# Altium schematic symbol library SchlibPH.SchLib: 21 symbols
Pins are listed as number, name and electrical type; pins without a type are passive.

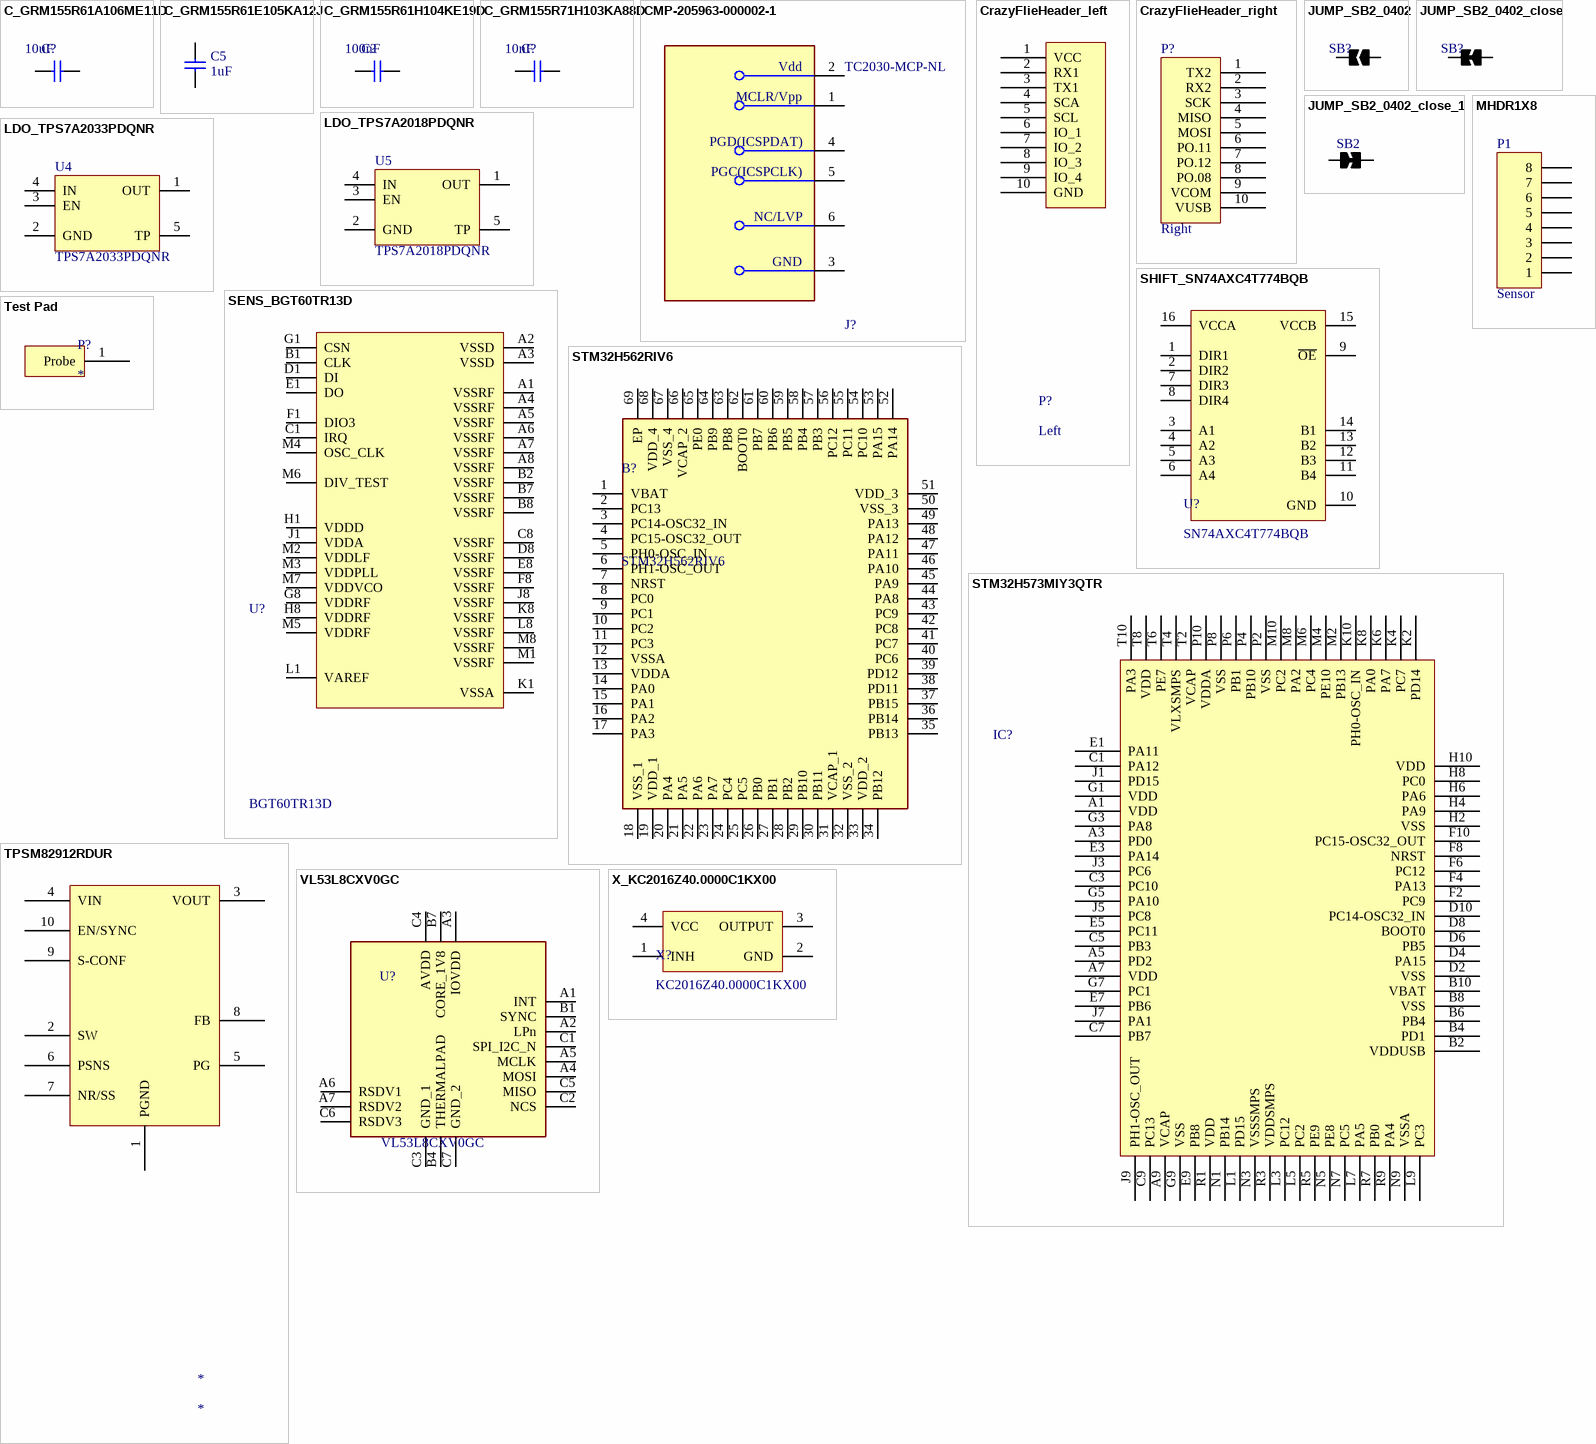
[diagram p0: symbols C_GRM155R61A106ME11D to X_KC2016Z40.0000C1KX00]

## C_GRM155R61A106ME11D
designator C?, comment 10uF
CAP CER  10uF 10V X5R 20% 0402; Part Number: GRM033R70J103JA01D; Manufacturer: Murata Electronics; Manufacturer Part Number: GRM155R71H103KA88D; Temperature Coefficient: X7R; Tolerance: ±5%; Voltage - Rated: 6.3V; Dielectric Material: Ceramic; Multilayer: Yes; Negative Tolerance: 10%; Rated DC Voltage (URdc): 50V; Applications: General Purpose; Capacitance: 10uF; ComponentLink1Description: Datasheet; ComponentLink1URL: https://search.murata.co.jp/Ceramy/image/img/A01X/G101/ENG/GRM033R70J103JA01-01.pdf; ComponentLink2Description: DigiKey Link; ComponentLink2URL: http://digikey.com/product-detail/en/murata-electronics/GRM033R70J103JA01D/490-16599-1-ND/7595523; Device Package: 0201 (0603 Metric); LastUpdated: 02/09/2020 01:00:04; Lifecycle Status: Active; Minimum Order: 1; Mounting Type: Surface Mount, MLCC; Operating Temperature: -55°C ~ 125°C; Package / Case: 0201 (0603 Metric); Packaging: CutTape; PartId: 174; Part Status: Active; Price: 0.10; Series: GRM; Size / Dimension: 0.024" L x 0.012" W (0.60mm x 0.30mm); Thickness (Max): 0.013" (0.33mm); Value: 10uF; RoHS: Yes; Category: Ceramic Capacitors; Stock 1: 3320653; Pricing 1: 1=0.10000, 10=0.03200, 50=0.03200, 100=0.01500, 1000=0.00800, 10000=0.00500 (USD); Mount: Surface Mount; Number of Pins: 2; Size Code: 0402; Terminal Finish: Nickel; Package Shape: Rectangular; Min Operating Temperature: -55°C; Max Operating Temperature: 125°C; JESD-609 Code: e3; Capacitor Type: Ceramic; Positive Tolerance: 10%; Temperature Characteristics Code: X7R; Termination: Wraparound; Package Style: SMTMeter; Length: 1mm; Width: 0.5mm; Height: 0.5mm; REACH SVHC: Yes; RoHS Compliant: Yes; ComponentLink3URL: https://psearch.en.murata.com:443/capacitor/product/GRM155R71H103KA88%23.pdf?src-supplier=IHS+Markit; ComponentLink3Description: https://psearch.en.murata.com:443/capacitor/product/GRM155R71H103KA88%23.pdf?src-supplier=IHS+Markit; ComponentLink4URL: https://datasheet.ciiva.com/22698/1747449-22698420.pdf?src-supplier=Element14; ComponentLink4Description: https://datasheet.ciiva.com/22698/1747449-22698420.pdf?src-supplier=Element14; ComponentLink5URL: https://datasheet.ciiva.com/19476/1856433-19476546.pdf?src-supplier=Jameco; ComponentLink5Description: https://datasheet.ciiva.com/19476/1856433-19476546.pdf?src-supplier=Jameco; ComponentLink6URL: https://datasheet.ciiva.com/129/product-129810.pdf?src-supplier=Digi-Key; ComponentLink6Description: https://datasheet.ciiva.com/129/product-129810.pdf?src-supplier=Digi-Key; ComponentLink7URL: https://datasheet.ciiva.com/11786/0900766b80ef921d-11786340.pdf?src-supplier=RSComponents; ComponentLink7Description: https://datasheet.ciiva.com/11786/0900766b80ef921d-11786340.pdf?src-supplier=RSComponents; ComponentLink8URL: https://datasheet.ciiva.com/18100/getdatasheetpartid-27434-18100660.pdf?src-supplier=Verical; ComponentLink8Description: https://datasheet.ciiva.com/18100/getdatasheetpartid-27434-18100660.pdf?src-supplier=Verical; ComponentLink9URL: https://datasheet.ciiva.com/29199/454225-da-01-en-vs-kondensator-0402-29199740.pdf?src-supplier=Conrad; ComponentLink9Description: https://datasheet.ciiva.com/29199/454225-da-01-en-vs-kondensator-0402-29199740.pdf?src-supplier=Conrad; ComponentLink10URL: https://datasheet.ciiva.com/129/grm155r71h103ka88-01-129811.pdf?src-supplier=Digi-Key; ComponentLink10Description: https://datasheet.ciiva.com/129/grm155r71h103ka88-01-129811.pdf?src-supplier=Digi-Key; ComponentLink11URL: https://datasheet.ciiva.com/129/grm155r71h103ka88-01-129812.pdf?src-supplier=Digi-Key; ComponentLink11Description: https://datasheet.ciiva.com/129/grm155r71h103ka88-01-129812.pdf?src-supplier=Digi-Key; ComponentLink12URL: https://datasheet.ciiva.com/5410/product-5410990.pdf?src-supplier=Mouser; ComponentLink12Description: https://datasheet.ciiva.com/5410/product-5410990.pdf?src-supplier=Mouser; ComponentLink13URL: https://datasheet.ciiva.com/16495/product-16495290.pdf?src-supplier=Future+Electronics; ComponentLink13Description: https://datasheet.ciiva.com/16495/product-16495290.pdf?src-supplier=Future+Electronics; Stock 2: 66098; Pricing 2: 1=0.17000, 10=0.12400, 50=0.07060, 100=0.05840, 500=0.04098, 1000=0.03392, 2500=0.03157, 5000=0.02888 (USD); Reach SVHC Compliant: Yes; ComponentLink14URL: https://datasheet.ciiva.com:443/pdfs/VipMasterIC/IC/MURE/MURE-S-A0006500741/MURE-S-A0006500741-1.pdf?src-supplier=IHS+Markit; ComponentLink14Description: https://datasheet.ciiva.com:443/pdfs/VipMasterIC/IC/MURE/MURE-S-A0006500741/MURE-S-A0006500741-1.pdf?src-supplier=IHS+Markit; Supplier 1: Digi-Key; Supplier Part Number 1: 490-GRM155R61A106ME11DCT-ND
footprint CAP0402 (Chip Capacitor, Body 1.0x0.5mm, Height 0.7mm, IPC High Density)
pins: 1, 2

## C_GRM155R61E105KA12J
designator C5, comment 1uF
CAP CER 1uF 25V X5R 0402; Manufacturer: Murata; Manufacturer Part Number: GRM033R61A105ME15D; Voltage Rating: 10V; Tolerance: 20%; Dielectric Material: Ceramic; Multilayer: Yes; Negative Tolerance: 10%; RoHS: Yes; Category: Ceramic Capacitors; Stock 1: 645001; Pricing 1: 1=0.18000, 10=0.08400, 50=0.08400, 100=0.03800, 1000=0.02100, 10000=0.01600 (USD); Mount: Surface Mount; Case/Package: 0201; Case Code (Metric): 0603; Case Code (Imperial): 0201; Min Operating Temperature: -55°C; Max Operating Temperature: 85°C; Packaging: Tape and Reel; Capacitance: 1uF; Voltage Rating (DC): 10V; Dielectric: X5R; Length: 0.024inch; Width: 0.012inch; Thickness: 0.015inch; RoHS Compliant: Yes; ComponentLink1URL: http://search.murata.co.jp/Ceramy/image/img/A01X/G101/ENG/GRM033R61A105ME15-01.pdf?src-supplier=Digi-Key; ComponentLink1Description: http://search.murata.co.jp/Ceramy/image/img/A01X/G101/ENG/GRM033R61A105ME15-01.pdf?src-supplier=Digi-Key; Supplier 1: Mouser; Number of Pins: 2; Package Shape: Rectangular; Size Code: 0402; Terminal Finish: Nickel; JESD-609 Code: e3; Capacitor Type: Ceramic; Package Style: SMTMeter; Positive Tolerance: 10%; Rated DC Voltage (URdc): 25V; Temperature Characteristics Code: X5R; Termination: Wraparound; Height: 0.5mm; REACH SVHC: Yes; ComponentLink2URL: https://datasheet.ciiva.com:443/pdfs/VipMasterIC/IC/MURE/MURE-S-A0004362469/MURE-S-A0004364524-1.pdf?src-supplier=IHS+Markit; ComponentLink2Description: https://datasheet.ciiva.com:443/pdfs/VipMasterIC/IC/MURE/MURE-S-A0004362469/MURE-S-A0004364524-1.pdf?src-supplier=IHS+Markit; ComponentLink3URL: http://search.murata.co.jp/Ceramy/image/img/A01X/G101/ENG/GRM155R61E105KA12-01.pdf?src-supplier=Digi-Key; ComponentLink3Description: http://search.murata.co.jp/Ceramy/image/img/A01X/G101/ENG/GRM155R61E105KA12-01.pdf?src-supplier=Digi-Key; Supplier Part Number 1: 81-GRM155R61E105KA2J
footprint CAP0402 (Chip Capacitor, Body 1.0x0.5mm, Height 0.7mm, IPC High Density)
pins: 1, 2

## C_GRM155R61H104KE19D
designator C?, comment 100nF
CAP CER 100nF 50V X5R 0402; Part Number: GRM033R70J103JA01D; Manufacturer: Murata Electronics; Manufacturer Part Number: GRM155R71H103KA88D; Temperature Coefficient: X7R; Tolerance: ±5%; Voltage - Rated: 6.3V; Dielectric Material: Ceramic; Multilayer: Yes; Negative Tolerance: 10%; Applications: General Purpose; Capacitance: 100nF; ComponentLink1Description: Datasheet; ComponentLink1URL: https://search.murata.co.jp/Ceramy/image/img/A01X/G101/ENG/GRM033R70J103JA01-01.pdf; ComponentLink2Description: DigiKey Link; ComponentLink2URL: http://digikey.com/product-detail/en/murata-electronics/GRM033R70J103JA01D/490-16599-1-ND/7595523; Device Package: 0201 (0603 Metric); LastUpdated: 02/09/2020 01:00:04; Lifecycle Status: Active; Minimum Order: 1; Mounting Type: Surface Mount, MLCC; Operating Temperature: -55°C ~ 125°C; Package / Case: 0201 (0603 Metric); Packaging: CutTape; PartId: 174; Part Status: Active; Price: 0.10; Series: GRM; Size / Dimension: 0.024" L x 0.012" W (0.60mm x 0.30mm); Thickness (Max): 0.013" (0.33mm); Value: 100nF; RoHS: Yes; Category: Ceramic Capacitors; Stock 1: 1915648; Pricing 1: 1=0.10000, 10=0.03600, 50=0.03600, 100=0.02900, 1000=0.01700, 10000=0.01100 (USD); Mount: Surface Mount; Number of Pins: 2; Size Code: 0402; Terminal Finish: Nickel; Package Shape: Rectangular; Min Operating Temperature: -55°C; Max Operating Temperature: 125°C; JESD-609 Code: e3; Capacitor Type: Ceramic; Positive Tolerance: 10%; Rated DC Voltage (URdc): 50V; Temperature Characteristics Code: X7R; Termination: Wraparound; Package Style: SMTMeter; Length: 1mm; Width: 0.5mm; Height: 0.5mm; REACH SVHC: Yes; RoHS Compliant: Yes; ComponentLink3URL: https://psearch.en.murata.com:443/capacitor/product/GRM155R71H103KA88%23.pdf?src-supplier=IHS+Markit; ComponentLink3Description: https://psearch.en.murata.com:443/capacitor/product/GRM155R71H103KA88%23.pdf?src-supplier=IHS+Markit; ComponentLink4URL: https://datasheet.ciiva.com/22698/1747449-22698420.pdf?src-supplier=Element14; ComponentLink4Description: https://datasheet.ciiva.com/22698/1747449-22698420.pdf?src-supplier=Element14; ComponentLink5URL: https://datasheet.ciiva.com/19476/1856433-19476546.pdf?src-supplier=Jameco; ComponentLink5Description: https://datasheet.ciiva.com/19476/1856433-19476546.pdf?src-supplier=Jameco; ComponentLink6URL: https://datasheet.ciiva.com/129/product-129810.pdf?src-supplier=Digi-Key; ComponentLink6Description: https://datasheet.ciiva.com/129/product-129810.pdf?src-supplier=Digi-Key; ComponentLink7URL: https://datasheet.ciiva.com/11786/0900766b80ef921d-11786340.pdf?src-supplier=RSComponents; ComponentLink7Description: https://datasheet.ciiva.com/11786/0900766b80ef921d-11786340.pdf?src-supplier=RSComponents; ComponentLink8URL: https://datasheet.ciiva.com/18100/getdatasheetpartid-27434-18100660.pdf?src-supplier=Verical; ComponentLink8Description: https://datasheet.ciiva.com/18100/getdatasheetpartid-27434-18100660.pdf?src-supplier=Verical; ComponentLink9URL: https://datasheet.ciiva.com/29199/454225-da-01-en-vs-kondensator-0402-29199740.pdf?src-supplier=Conrad; ComponentLink9Description: https://datasheet.ciiva.com/29199/454225-da-01-en-vs-kondensator-0402-29199740.pdf?src-supplier=Conrad; ComponentLink10URL: https://datasheet.ciiva.com/129/grm155r71h103ka88-01-129811.pdf?src-supplier=Digi-Key; ComponentLink10Description: https://datasheet.ciiva.com/129/grm155r71h103ka88-01-129811.pdf?src-supplier=Digi-Key; ComponentLink11URL: https://datasheet.ciiva.com/129/grm155r71h103ka88-01-129812.pdf?src-supplier=Digi-Key; ComponentLink11Description: https://datasheet.ciiva.com/129/grm155r71h103ka88-01-129812.pdf?src-supplier=Digi-Key; ComponentLink12URL: https://datasheet.ciiva.com/5410/product-5410990.pdf?src-supplier=Mouser; ComponentLink12Description: https://datasheet.ciiva.com/5410/product-5410990.pdf?src-supplier=Mouser; ComponentLink13URL: https://datasheet.ciiva.com/16495/product-16495290.pdf?src-supplier=Future+Electronics; ComponentLink13Description: https://datasheet.ciiva.com/16495/product-16495290.pdf?src-supplier=Future+Electronics; ComponentLink14URL: https://datasheet.ciiva.com:443/pdfs/VipMasterIC/IC/MURE/MURE-S-A0004362469/MURE-S-A0004364249-1.pdf?src-supplier=IHS+Markit; ComponentLink14Description: https://datasheet.ciiva.com:443/pdfs/VipMasterIC/IC/MURE/MURE-S-A0004362469/MURE-S-A0004364249-1.pdf?src-supplier=IHS+Markit; ComponentLink15URL: http://search.murata.co.jp/Ceramy/image/img/A01X/G101/ENG/GRM155C71H104KE19-01A.pdf?src-supplier=Digi-Key; ComponentLink15Description: http://search.murata.co.jp/Ceramy/image/img/A01X/G101/ENG/GRM155C71H104KE19-01A.pdf?src-supplier=Digi-Key; Supplier 1: Mouser; ComponentLink16URL: https://datasheet.ciiva.com:443/pdfs/VipMasterIC/IC/MURE/MURE-S-A0004362469/MURE-S-A0004364633-1.pdf?src-supplier=IHS+Markit; ComponentLink16Description: https://datasheet.ciiva.com:443/pdfs/VipMasterIC/IC/MURE/MURE-S-A0004362469/MURE-S-A0004364633-1.pdf?src-supplier=IHS+Markit; ComponentLink17URL: https://datasheet.ciiva.com/7719/1666664-7719007.pdf?src-supplier=Element14; ComponentLink17Description: https://datasheet.ciiva.com/7719/1666664-7719007.pdf?src-supplier=Element14; ComponentLink18URL: https://datasheet.ciiva.com/22698/1666664-22698413.pdf?src-supplier=Element14; ComponentLink18Description: https://datasheet.ciiva.com/22698/1666664-22698413.pdf?src-supplier=Element14; Supplier Part Number 1: 81-GRM155R61H104KE9D
footprint CAP0402 (Chip Capacitor, Body 1.0x0.5mm, Height 0.7mm, IPC High Density)
pins: 1, 2

## C_GRM155R71H103KA88D
designator C?, comment 10nF
CAP CER 10nF 50V X7R 0402; Part Number: GRM033R70J103JA01D; Manufacturer: Murata Electronics; Manufacturer Part Number: GRM155R71H103KA88D; Tolerance: ±5%; Voltage - Rated: 6.3V; Dielectric Material: Ceramic; Multilayer: Yes; Negative Tolerance: 10%; Applications: General Purpose; Capacitance: 10nF; ComponentLink1Description: Datasheet; ComponentLink1URL: https://search.murata.co.jp/Ceramy/image/img/A01X/G101/ENG/GRM033R70J103JA01-01.pdf; ComponentLink2Description: DigiKey Link; ComponentLink2URL: http://digikey.com/product-detail/en/murata-electronics/GRM033R70J103JA01D/490-16599-1-ND/7595523; Device Package: 0201 (0603 Metric); LastUpdated: 02/09/2020 01:00:04; Lifecycle Status: Active; Minimum Order: 1; Mounting Type: Surface Mount, MLCC; Operating Temperature: -55°C ~ 125°C; Package / Case: 0201 (0603 Metric); Packaging: CutTape; PartId: 174; Part Status: Active; Price: 0.10; Series: GRM; Size / Dimension: 0.024" L x 0.012" W (0.60mm x 0.30mm); Temperature Coefficient: X7R; Thickness (Max): 0.013" (0.33mm); Value: 10nF; Supplier 1: Mouser; RoHS: Yes; Category: Ceramic Capacitors; Stock 1: 3320653; Pricing 1: 1=0.10000, 10=0.03200, 50=0.03200, 100=0.01500, 1000=0.00800, 10000=0.00500 (USD); Mount: Surface Mount; Number of Pins: 2; Size Code: 0402; Terminal Finish: Nickel; Package Shape: Rectangular; Min Operating Temperature: -55°C; Max Operating Temperature: 125°C; JESD-609 Code: e3; Capacitor Type: Ceramic; Positive Tolerance: 10%; Rated DC Voltage (URdc): 50V; Temperature Characteristics Code: X7R; Termination: Wraparound; Package Style: SMTMeter; Length: 1mm; Width: 0.5mm; Height: 0.5mm; REACH SVHC: Yes; RoHS Compliant: Yes; ComponentLink3URL: https://psearch.en.murata.com:443/capacitor/product/GRM155R71H103KA88%23.pdf?src-supplier=IHS+Markit; ComponentLink3Description: https://psearch.en.murata.com:443/capacitor/product/GRM155R71H103KA88%23.pdf?src-supplier=IHS+Markit; ComponentLink4URL: https://datasheet.ciiva.com/22698/1747449-22698420.pdf?src-supplier=Element14; ComponentLink4Description: https://datasheet.ciiva.com/22698/1747449-22698420.pdf?src-supplier=Element14; ComponentLink5URL: https://datasheet.ciiva.com/19476/1856433-19476546.pdf?src-supplier=Jameco; ComponentLink5Description: https://datasheet.ciiva.com/19476/1856433-19476546.pdf?src-supplier=Jameco; ComponentLink6URL: https://datasheet.ciiva.com/129/product-129810.pdf?src-supplier=Digi-Key; ComponentLink6Description: https://datasheet.ciiva.com/129/product-129810.pdf?src-supplier=Digi-Key; ComponentLink7URL: https://datasheet.ciiva.com/11786/0900766b80ef921d-11786340.pdf?src-supplier=RSComponents; ComponentLink7Description: https://datasheet.ciiva.com/11786/0900766b80ef921d-11786340.pdf?src-supplier=RSComponents; ComponentLink8URL: https://datasheet.ciiva.com/18100/getdatasheetpartid-27434-18100660.pdf?src-supplier=Verical; ComponentLink8Description: https://datasheet.ciiva.com/18100/getdatasheetpartid-27434-18100660.pdf?src-supplier=Verical; ComponentLink9URL: https://datasheet.ciiva.com/29199/454225-da-01-en-vs-kondensator-0402-29199740.pdf?src-supplier=Conrad; ComponentLink9Description: https://datasheet.ciiva.com/29199/454225-da-01-en-vs-kondensator-0402-29199740.pdf?src-supplier=Conrad; ComponentLink10URL: https://datasheet.ciiva.com/129/grm155r71h103ka88-01-129811.pdf?src-supplier=Digi-Key; ComponentLink10Description: https://datasheet.ciiva.com/129/grm155r71h103ka88-01-129811.pdf?src-supplier=Digi-Key; ComponentLink11URL: https://datasheet.ciiva.com/129/grm155r71h103ka88-01-129812.pdf?src-supplier=Digi-Key; ComponentLink11Description: https://datasheet.ciiva.com/129/grm155r71h103ka88-01-129812.pdf?src-supplier=Digi-Key; ComponentLink12URL: https://datasheet.ciiva.com/5410/product-5410990.pdf?src-supplier=Mouser; ComponentLink12Description: https://datasheet.ciiva.com/5410/product-5410990.pdf?src-supplier=Mouser; ComponentLink13URL: https://datasheet.ciiva.com/16495/product-16495290.pdf?src-supplier=Future+Electronics; ComponentLink13Description: https://datasheet.ciiva.com/16495/product-16495290.pdf?src-supplier=Future+Electronics; Supplier Part Number 1: 81-GRM155R71H103KA8D
footprint CAP0402 (Chip Capacitor, Body 1.0x0.5mm, Height 0.7mm, IPC High Density)
pins: 1, 2

## CMP-205963-000002-1
designator J?, comment TC2030-MCP-NL
CABLE TAG-CONNECT IN-CIRCUIT; RoHS Compliant: Yes; Series: -; Reach SVHC Compliant: Yes; Package Quantity: 1; Lead Free: Lead Free
footprint FP-TC2030-MCP-NL-MFG
pins: 1 MCLR/Vpp, 2 Vdd, 3 GND, 4 PGD(ICSPDAT), 5 PGC(ICSPCLK), 6 NC/LVP

## CrazyFlieHeader_left
designator P?, comment Left
Header to connect to crazy flie pins
footprint CrazyFlieConnector
pins: 1 VCC, 2 RX1, 3 TX1, 4 SCA, 5 SCL, 6 IO_1, 7 IO_2, 8 IO_3, 9 IO_4, 10 GND

## CrazyFlieHeader_right
designator P?, comment Right
Header to connect to crazy flie pins
footprint CrazyFlieConnector
pins: 1 TX2, 2 RX2, 3 SCK, 4 MISO, 5 MOSI, 6 PO.11, 7 PO.12, 8 PO.08, 9 VCOM, 10 VUSB (power)

## JUMP_SB2_0402
designator SB?, comment SB2_0402  (value not drawn)
Custom Solder jumper, open
footprint SB2_0402
pins: 1, 2

## JUMP_SB2_0402_close
designator SB?, comment SB2_0402_close  (value not drawn)  (net tie)
Custom Solder jumper, closed
footprint SB2_0402_CLOSE
pins: 1, 2

## JUMP_SB2_0402_close_1
designator SB2, comment SB2_0402_close  (value not drawn)  (net tie)
Custom Solder jumper, closed
footprint SB2_0402_CLOSE
pins: 1, 2

## LDO_TPS7A2018PDQNR
designator U5, comment TPS7A2018PDQNR
1.8V 300-mA ultra-low-noise low-IQ low-dropout (LDO) linear regulator with high PSRR; Manufacturer: Texas Instruments; Supplier 1: Mouser; Manufacturer Part Number: TPS7A2018PDQNR; RoHS: No; Category: Integrated Circuits (ICs); Stock 1: 10388; Pricing 1: 1=0.46, 10=0.371, 50=0.371, 100=0.276, 1000=0.181, 10000=0.145 (USD); Supplier Part Number 1: 595-TPS7A2018PDQNR
footprint DQN0004A_V (SON, Body 1.05x1.05mm, Pitch 0.65mm)
pins: 1 OUT, 2 GND, 3 EN, 4 IN, 5 TP

## LDO_TPS7A2033PDQNR
designator U4, comment TPS7A2033PDQNR
3.3V 300-mA ultra-low-noise low-IQ low-dropout (LDO) linear regulator with high PSRR; Manufacturer: Texas Instruments; Manufacturer Part Number: TPS7A2018PDQNR; RoHS: No; Category: Integrated Circuits (ICs); Stock 1: 25670; Pricing 1: 1=0.46, 10=0.372, 50=0.372, 100=0.276, 1000=0.181, 10000=0.145 (USD); Supplier 1: Mouser; Supplier Part Number 1: 595-TPS7A2033PDQNR
footprint DQN0004A_V (SON, Body 1.05x1.05mm, Pitch 0.65mm)
pins: 1 OUT, 2 GND, 3 EN, 4 IN, 5 TP

## MHDR1X8
designator P1, comment Sensor
Header, 8-Pin; System: Connector; LatestRevisionDate: 17-Jul-2002; LatestRevisionNote: Re-released for DXP Platform.; Publisher: Altium Limited
footprint tof-connector
pins: 1, 2, 3, 4, 5, 6, 7, 8

## SENS_BGT60TR13D
designator U?, comment BGT60TR13D
XENSIV 60 GHz radar system platform; Manufacturer: Infineon Technologies; Manufacturer Part Number: BGT61TR13C; OrderNr: EES BGT61TR13C; Value: BGT61TR13C; distributor: Infineon Technologies; PackageReference: BGT61TR13C
footprint BGT60TR13D (20190318)
pins: A1 VSSRF, A2 VSSD, A3 VSSD, A4 VSSRF, A5 VSSRF, A6 VSSRF, A7 VSSRF, A8 VSSRF, B1 CLK, B2 VSSRF, B7 VSSRF, B8 VSSRF, C1 IRQ, C8 VSSRF, D1 DI, D8 VSSRF, E1 DO, E8 VSSRF, F1 DIO3, F8 VSSRF, G1 CSN, G8 VDDRF, H1 VDDD, H8 VDDRF, J1 VDDA, J8 VSSRF, K1 VSSA, K8 VSSRF, L1 VAREF, L8 VSSRF, M1 VSSRF, M2 VDDLF, M3 VDDPLL, M4 OSC_CLK, M5 VDDRF, M6 DIV_TEST, M7 VDDVCO, M8 VSSRF

## SHIFT_SN74AXC4T774BQB
designator U?, comment SN74AXC4T774BQB
4-Bit Dual-Supply Bus Transceiver with Independent Direction Control, Configurable Voltage Translation, and Tri-State Outputs; Manufacturer: Texas Instruments; Manufacturer Part Number: SN74AXC4T774BQBR; Supplier 1: Mouser; RoHS: No; Category: Buffers, Drivers and Transceivers; Stock 1: 8447; Pricing 1: 1=1.02, 10=0.863, 50=0.863, 100=0.663, 1000=0.463, 10000=0.403 (USD); Supplier Part Number 1: 595-SN74AXC4T774BQBR
footprint BQB0016A
pins: 1 DIR1, 2 DIR2, 3 A1, 4 A2, 5 A3, 6 A4, 7 DIR3, 8 DIR4, 9 ~{OE}, 10 GND, 11 B4, 12 B3, 13 B2, 14 B1, 15 VCCB (power), 16 VCCA (power)

## STM32H562RIV6
designator B?
ARM Microcontrollers - MCU Arm Cortex-M33 32-bit 250 MHz, up to 2 Mbytes of Flash, 640KB of RAM, I3C, DCMI; Manufacturer_Name: STMicroelectronics; Geometry.Height: 1mm; Manufacturer_Part_Number: STM32H562RIV6; Mouser Part Number: 511-STM32H562RIV6; Mouser Price/Stock: https://www.mouser.co.uk/ProductDetail/STMicroelectronics/STM32H562RIV6?qs=amGC7iS6iy8R%2FTU6LJUskw%3D%3D; Arrow Part Number: *; Arrow Price/Stock: *; Datasheet Link: https://www.st.com/resource/en/datasheet/stm32h562ri.pdf; Supplier 1: Mouser; Supplier Part Number 1: 511-STM32H562RIV6
footprint STM32H562RIV6
pins: 1 VBAT, 2 PC13, 3 PC14-OSC32_IN, 4 PC15-OSC32_OUT, 5 PH0-OSC_IN, 6 PH1-OSC_OUT, 7 NRST, 8 PC0, 9 PC1, 10 PC2, 11 PC3, 12 VSSA, 13 VDDA, 14 PA0, 15 PA1, 16 PA2, 17 PA3, 18 VSS_1, 19 VDD_1, 20 PA4, 21 PA5, 22 PA6, 23 PA7, 24 PC4, 25 PC5, 26 PB0, 27 PB1, 28 PB2, 29 PB10, 30 PB11, 31 VCAP_1, 32 VSS_2, 33 VDD_2, 34 PB12, 35 PB13, 36 PB14, 37 PB15, 38 PD11, 39 PD12, 40 PC6, 41 PC7, 42 PC8, 43 PC9, 44 PA8, 45 PA9, 46 PA10, 47 PA11, 48 PA12, 49 PA13, 50 VSS_3, 51 VDD_3, 52 PA14, 53 PA15, 54 PC10, 55 PC11, 56 PC12, 57 PB3, 58 PB4, 59 PB5, 60 PB6, 61 PB7, 62 BOOT0, 63 PB8, 64 PB9, 65 PE0, 66 VCAP_2, 67 VSS_4, 68 VDD_4, 69 EP

## STM32H573MIY3QTR
designator IC?
ARM MCU, STM32 Family STM32H5 Series Microcontrollers, ARM Cortex-M33F, 32 bit, 250 MHz, 2 MB. WARNING. Verify whether it is correct by someone who knows what they're doing
footprint STM32H573MIY3QTR (BGA, 80-Leads, Body 3.50x3.28mmx0.53mm, Pitch 0.35mm)
pins: A1 VDD, A3 PD0, A5 PD2, A7 VDD, A9 VCAP, B2 VDDUSB, B4 PD1, B6 PB4, B8 VSS, B10 VBAT, C1 PA12, C3 PC10, C5 PB3, C7 PB7, C9 PC13, D2 VSS, D4 PA15, D6 PB5, D8 BOOT0, D10 PC14-OSC32_IN, E1 PA11, E3 PA14, E5 PC11, E7 PB6, E9 PB8, F2 PC9, F4 PA13, F6 PC12, F8 NRST, F10 PC15-OSC32_OUT, G1 VDD, G3 PA8, G5 PA10, G7 PC1, G9 VSS, H2 VSS, H4 PA9, H6 PA6, H8 PC0, H10 VDD, J1 PD15, J3 PC6, J5 PC8, J7 PA1, J9 PH1-OSC_OUT, K2 PD14, K4 PC7, K6 PA7, K8 PA0, K10 PH0-OSC_IN, L1 PD15, L3 PC12, L5 PC2, L7 PA5, L9 PC3, M2 PB13, M4 PE10, M6 PC4, M8 PA2, M10 PC2, N1 PB14, N3 VSSSMPS, N5 PE8, N7 PC5, N9 VSSA, P2 VSS, P4 PB10, P6 PB1, P8 VSS, P10 VDDA, R1 VDD, R3 VDDSMPS, R5 PE9, R7 PB0, R9 PA4, T2 VCAP, T4 VLXSMPS, T6 PE7, T8 VDD, T10 PA3

## Test Pad
designator P?
footprint test pad (Signal testing pad)
pins: 1 Probe

## TPSM82912RDUR
designator *
Switching Voltage Regulators 17-V, 2-A low-noise and low-ripple buck module with integrated ferrite bead filter compensation 28-B0QFN -40 to 125; Supplier 1: Mouser; Supplier Part Number 1: 595-TPSM82912RDUR
footprint TPSM82912RDUR (Switching Voltage Regulators 17-V, 2-A low-noise and low-ripple buck module with integrated ferrite bead filter compensation 28-B0QFN -40 to 125)
pins: 1 PGND, 2 SW, 3 VOUT, 4 VIN, 5 PG, 6 PSNS, 7 NR/SS, 8 FB, 9 S-CONF, 10 EN/SYNC

## VL53L8CXV0GC
designator U?
Low-power high-performance 8x8 multizone Time-of-Flight sensor 940 nm, 6.4x3.0x1.75 mm, -30 to 85C; Manufacturer_Name: STMicroelectronics; Manufacturer_Part_Number: VL53L8CXV0GC/1; Geometry.Height: 1.8mm; Mouser Part Number: 511-VL53L8CXV0GC/1; Mouser Price/Stock: https://www.mouser.co.uk/ProductDetail/STMicroelectronics/VL53L8CXV0GC-1?qs=T%252BzbugeAwjhc9idkQC%252BF8g%3D%3D; Arrow Part Number: VL53L8CXV0GC/1; Arrow Price/Stock: https://www.arrow.com/en/products/vl53l8cxv0gc1/stmicroelectronics?region=europe; Datasheet Link: https://www.st.com/resource/en/datasheet/vl53l8cx.pdf; Supplier 1: Mouser; Supplier Part Number 1: 511-VL53L8CXV0GC/1
footprint VL53L8CXV0GC1
pins: A1 INT, A2 LPn, A3 IOVDD, A4 MOSI, A5 MCLK, A6 RSDV1, A7 RSDV2, B1 SYNC, B4 THERMALPAD, B7 CORE_1V8, C1 SPI_I2C_N, C2 NCS, C3 GND_1, C4 AVDD, C5 MISO, C6 RSDV3, C7 GND_2

## X_KC2016Z40.0000C1KX00
designator X?, comment KC2016Z40.0000C1KX00
Standard Clock Oscillators 40 Mhz 20 Ppm 15 Pf Cmos Aec-Q200; Mfr_Name: KYOCERA AVX; Copyright: Copyright (C) 2022 Ultra Librarian. All rights reserved.; RefDes: RefDes; Type: DEV; Supplier 1: Digi-Key; Supplier Part Number 1: 478-KC2016Z40.0000C1KX00CT-ND; Manufacturer: Kyocera AVX; Manufacturer Part Number: KC2016Z40.0000C1KX00; RoHS: No; Category: Oscillators; Stock 1: 1950; Pricing 1: 1=1.29000, 10=1.13800, 50=1.06420, 100=0.94050, 500=0.89100, 1000=0.74250 (USD)
footprint KC2016Z_AVX
pins: 1 INH, 2 GND, 3 OUTPUT, 4 VCC (power)